# EAGLE library part MM74HC123AN (library Fairchild_By_element14_Batch_1)
Dual Retriggerable Monostable Multivibrator
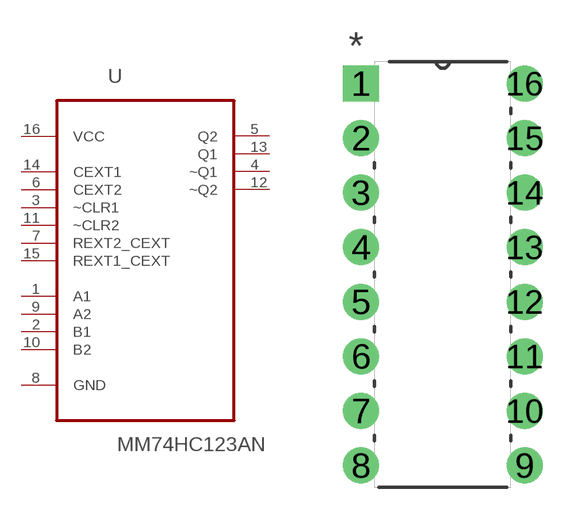
[diagram p239: symbol with the pads of DIP254P762X508-16; footprint DIP254P762X508-16]

Designator prefix U

## MM74HC123AN (MPN: MM74HC123AN; OC_FARNELL: 1013917; OC_NEWARK: 60K7822; PACKAGE: PDIP-16; SUPPLIER: Fairchild)  [DIP254P762X508-16]
1  A1  in
2  B1  in
3  ~CLR1  in
4  ~Q1  out
5  Q2  out
6  CEXT2  pas
7  REXT2_CEXT  pas
8  GND  pas
9  A2  in
10  B2  in
11  ~CLR2  in
12  ~Q2  out
13  Q1  out
14  CEXT1  pas
15  REXT1_CEXT  pas
16  VCC  pwr

## Footprint DIP254P762X508-16 (pad centres in mm)
drill 1.118 square: 1 -7.62,17.78
drill 1.118: 2 -7.62,15.24; 3 -7.62,12.7; 4 -7.62,10.16; 5 -7.62,7.62; 6 -7.62,5.08; 7 -7.62,2.54; 8 -7.62,0; 9 0,0; 10 0,2.54; 11 0,5.08; 12 0,7.62; 13 0,10.16; 14 0,12.7; 15 0,15.24; 16 0,17.78